# Altium schematic symbol library Security.SchLib: 7 symbols
Pins are listed as number, name and electrical type; pins without a type are passive.

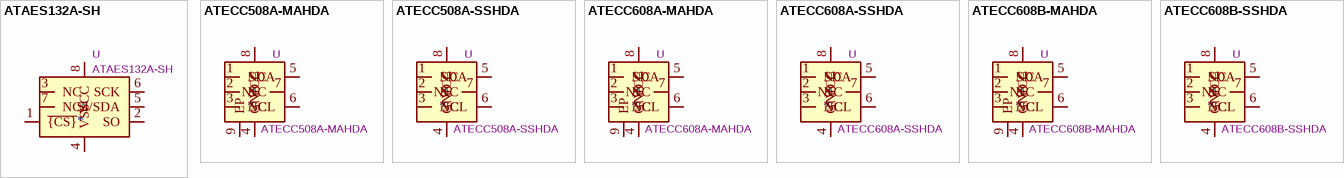
[diagram p0: symbols ATAES132A-SH to ATECC608B-SSHDA]

## ATAES132A-SH
designator *  value ATAES132A-SH  Reference: U
32K AES serial EEPROM, SOIC-8; ki_keywords: cryptographic security AES SPI; ki_fp_filters: SOIC*3.9x4.9mm*P1.27mm*; Footprint: Package_SO:SOIC-8_3.9x4.9mm_P1.27mm; Datasheet: http://ww1.microchip.com/downloads/en/DeviceDoc/ATAES132A-Data-Sheet-40002023A.pdf; Description_: 32K AES serial EEPROM, SOIC-8
pins: 1 ~{{CS}}, 2 SO, 3 NC, 4 VSS, 5 SI/SDA, 6 SCK, 7 NC, 8 VCC

## ATECC508A-MAHDA
designator *  value ATECC508A-MAHDA  Reference: U
Cryptographic Co-Processor with Secure Hardware-based 16 Key Storage, ECDSA and ECDH support, I2C, UDFN-8; ki_keywords: Cryptographic coprocessor; ki_fp_filters: DFN*1EP*3x2mm*P0.5mm*; Footprint: Package_DFN_QFN:DFN-8-1EP_3x2mm_P0.5mm_EP1.3x1.5mm; Datasheet: https://ww1.microchip.com/downloads/aemDocuments/documents/OTH/ProductDocuments/DataSheets/20005928A.pdf; Description_: Cryptographic Co-Processor with Secure Hardware-based 16 Key Storage, ECDSA and ECDH support, I2C, UDFN-8
pins: 1 NC, 2 NC, 3 NC, 4 GND, 5 SDA, 6 SCL, 7 NC, 8 VCC, 9 EP

## ATECC508A-SSHDA
designator *  value ATECC508A-SSHDA  Reference: U
Cryptographic Co-Processor with Secure Hardware-based 16 Key Storage, ECDSA and ECDH support, I2C, SOIC-8; ki_keywords: Cryptographic coprocessor; ki_fp_filters: SOIC*8*3.9x4.9mm*P1.27mm*; Footprint: Package_SO:SOIC-8_3.9x4.9mm_P1.27mm; Datasheet: https://ww1.microchip.com/downloads/aemDocuments/documents/OTH/ProductDocuments/DataSheets/20005928A.pdf; Description_: Cryptographic Co-Processor with Secure Hardware-based 16 Key Storage, ECDSA and ECDH support, I2C, SOIC-8
pins: 1 NC, 2 NC, 3 NC, 4 GND, 5 SDA, 6 SCL, 7 NC, 8 VCC

## ATECC608A-MAHDA
designator *  value ATECC608A-MAHDA  Reference: U
Cryptographic Co-Processor with Secure Hardware-based 16 Key Storage, ECDSA and ECDH support, I2C, UDFN-8; ki_keywords: Cryptographic coprocessor; ki_fp_filters: DFN*1EP*3x2mm*P0.5mm*; Footprint: Package_DFN_QFN:DFN-8-1EP_3x2mm_P0.5mm_EP1.3x1.5mm; Datasheet: http://ww1.microchip.com/downloads/en/DeviceDoc/ATECC608A-CryptoAuthentication-Device-Summary-Data-Sheet-DS40001977B.pdf; Description_: Cryptographic Co-Processor with Secure Hardware-based 16 Key Storage, ECDSA and ECDH support, I2C, UDFN-8
pins: 1 NC, 2 NC, 3 NC, 4 GND, 5 SDA, 6 SCL, 7 NC, 8 VCC, 9 EP

## ATECC608A-SSHDA
designator *  value ATECC608A-SSHDA  Reference: U
Cryptographic Co-Processor with Secure Hardware-based 16 Key Storage, ECDSA and ECDH support, I2C, SOIC-8; ki_keywords: Cryptographic coprocessor; ki_fp_filters: SOIC*8*3.9x4.9mm*P1.27mm*; Footprint: Package_SO:SOIC-8_3.9x4.9mm_P1.27mm; Datasheet: http://ww1.microchip.com/downloads/en/DeviceDoc/ATECC608A-CryptoAuthentication-Device-Summary-Data-Sheet-DS40001977B.pdf; Description_: Cryptographic Co-Processor with Secure Hardware-based 16 Key Storage, ECDSA and ECDH support, I2C, SOIC-8
pins: 1 NC, 2 NC, 3 NC, 4 GND, 5 SDA, 6 SCL, 7 NC, 8 VCC

## ATECC608B-MAHDA
designator *  value ATECC608B-MAHDA  Reference: U
Cryptographic Co-Processor with Secure Hardware-based 16 Key Storage, ECDSA and ECDH support, I2C, UDFN-8; ki_keywords: Cryptographic coprocessor; ki_fp_filters: DFN*1EP*3x2mm*P0.5mm*; Footprint: Package_DFN_QFN:DFN-8-1EP_3x2mm_P0.5mm_EP1.3x1.5mm; Datasheet: https://ww1.microchip.com/downloads/aemDocuments/documents/SCBU/ProductDocuments/DataSheets/ATECC608B-CryptoAuthentication-Device-Summary-Data-Sheet-DS40002239B.pdf; Description_: Cryptographic Co-Processor with Secure Hardware-based 16 Key Storage, ECDSA and ECDH support, I2C, UDFN-8
pins: 1 NC, 2 NC, 3 NC, 4 GND, 5 SDA, 6 SCL, 7 NC, 8 VCC, 9 EP

## ATECC608B-SSHDA
designator *  value ATECC608B-SSHDA  Reference: U
Cryptographic Co-Processor with Secure Hardware-based 16 Key Storage, ECDSA and ECDH support, I2C, SOIC-8; ki_keywords: Cryptographic coprocessor; ki_fp_filters: SOIC*8*3.9x4.9mm*P1.27mm*; Footprint: Package_SO:SOIC-8_3.9x4.9mm_P1.27mm; Datasheet: https://ww1.microchip.com/downloads/aemDocuments/documents/SCBU/ProductDocuments/DataSheets/ATECC608B-CryptoAuthentication-Device-Summary-Data-Sheet-DS40002239B.pdf; Description_: Cryptographic Co-Processor with Secure Hardware-based 16 Key Storage, ECDSA and ECDH support, I2C, SOIC-8
pins: 1 NC, 2 NC, 3 NC, 4 GND, 5 SDA, 6 SCL, 7 NC, 8 VCC